# Altium footprint library RM024-SXXX.PcbLib: 1 footprints
Each footprint in its own frame and in the unit in brackets; x right, y up, seen from the top. Pads: shape width x height; smd on the part's side, far side on the other; paste and mask are expansions set on the pad; w line width, h text height; cw(c..) or ccw(c..) is an arc to the next point about the centre after c.
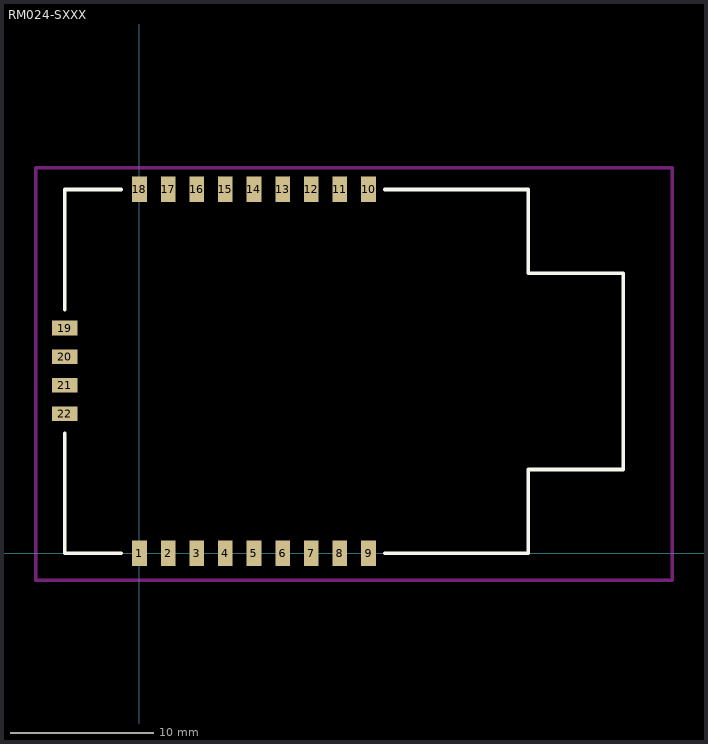
[diagram p0: the footprint, top view; thin cyan lines are the x and y axes]

## RM024-SXXX [mm] "Laird Rm024 Radio Module Surface Mount"
height 4.2
pads (22):
  rect 1.02x1.78 smd: 1(0,0) 2(2,0) 3(4,0) 4(6,0) 5(8,0) 6(10,0) 7(12,0) 8(14,0) 9(16,0) 10(16,25.4) 11(14,25.4) 12(12,25.4) 13(10,25.4) 14(8,25.4) 15(6,25.4) 16(4,25.4) 17(2,25.4) 18(0,25.4)
  rect 1.78x1.02 smd: 19(-5.21,15.72) 20(-5.21,13.72) 21(-5.21,11.72) 22(-5.21,9.72)
Top Overlay:
  lines w0.254: -5.21,8.382 -5.207,0 -1.27,0 ; -5.21,25.4 -5.207,17.018 ; -5.207,25.4 -1.27,25.4 ; 17.145,0 27.17,0 27.17,5.84 33.78,5.84 ; 17.145,25.4 27.17,25.4 27.17,19.56 ; 27.17,19.556 33.78,19.556 ; 33.782,5.842 33.782,19.558
Keep-Out Layer:
  lines w0.254: -7.239,-1.905 -7.239,26.924 37.211,26.924 37.211,-1.905 -7.239,-1.905